# Altium footprint library DDS_PCB.PcbLib: 25 footprints (part 1 of 2)
Each footprint in its own frame and in the unit in brackets; x right, y up, seen from the top. Pads: shape width x height; smd on the part's side, far side on the other; paste and mask are expansions set on the pad; w line width, h text height; cw(c..) or ccw(c..) is an arc to the next point about the centre after c.
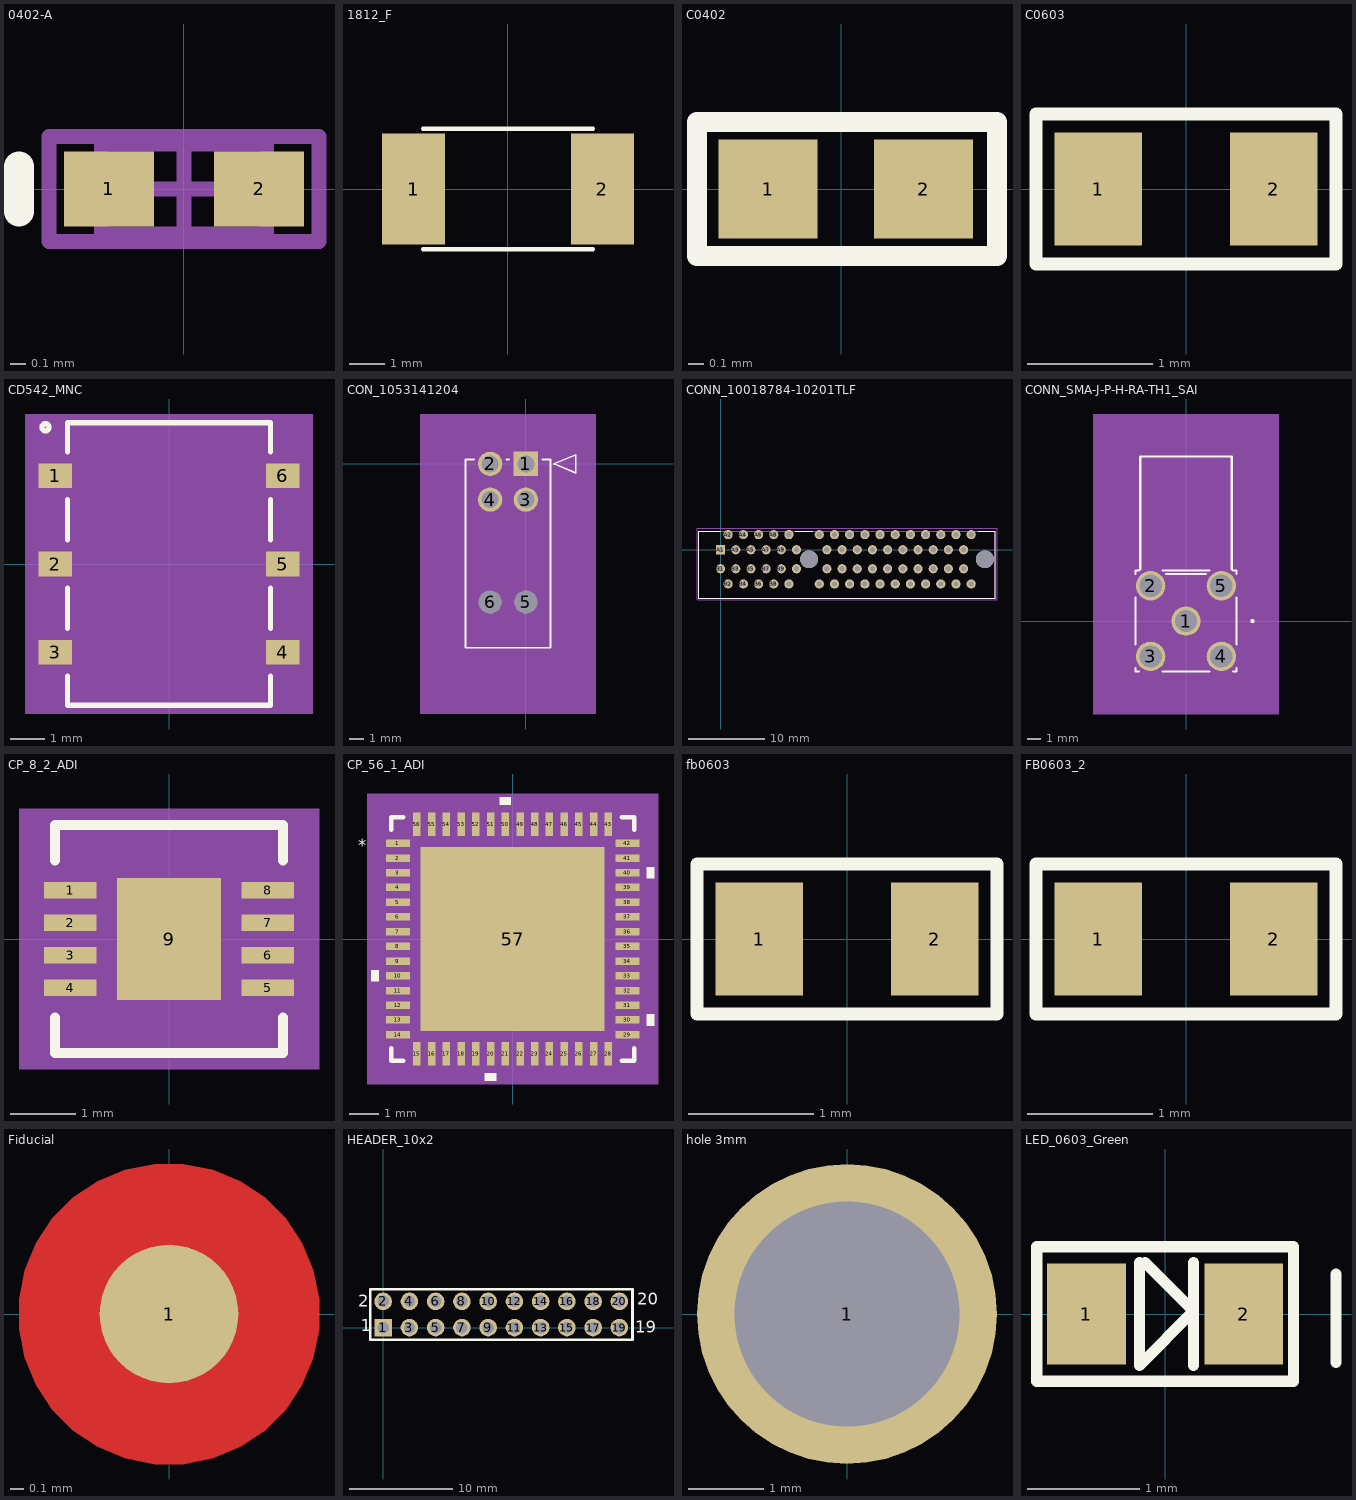
[diagram p0: the footprints below, top view; thin cyan lines are the x and y axes]

## 0402-A [mm] "Chip Inductor, Body 1.0x0.5mm, IPC High Density"
height 0.55
pads (2):
  rect 0.6x0.5 smd: 1(-0.5,0) 2(0.5,0)
Top Overlay:
  lines w0.2: -1.1,-0.15 -1.1,0.15
Mechanical 13:
  lines w0.1: -0.55,-0.3 -0.55,0.3 0.55,0.3 0.55,-0.3 -0.55,-0.3
Mechanical 15:
  lines w0.1: -0.3,0 0.3,0 ; 0,-0.3 0,0.3 ; -0.9,-0.35 -0.9,0.35 0.9,0.35 0.9,-0.35 -0.9,-0.35
3D body: height 0.55, standoff 0, extent -0.55,-0.3 0.55,0.3

## 1812_F [mm] "PTC RESETTABLE 33V 1.10A 1812L"
pads (2):
  rect 1.78x3.15 smd mask+0.05: 1(-2.665,0) 2(2.665,0)
Top Overlay:
  lines w0.12: -2.4,-1.7 2.4,-1.7 ; -2.4,1.7 2.4,1.7
3D body "SW3dPS-Fuse 1812.STEP": height 1.03, standoff 0, extent -2.365,-1.74 2.37,1.74

## C0402 [mil] "C0402"
pads (2):
  rect 25x25 smd mask+2: 1(-18.5,0) 2(20.9,0)
Top Overlay:
  lines w5: -36.5,-17 -36.5,17 36.5,17 39.5,17 39.5,-17 -36.5,-17
Mechanical 16:
  lines w5: -36.5,-17 -36.5,17 39.5,17 39.5,-17 -36.5,-17
Mechanical 18:
  text "1" at -18.5,-10 h25
3D body "SW3dPS-0402 SMD Capacitor.STEP": height 7.95, standoff 0, extent -19.68,-11.81 19.69,11.81

## C0603 [mm]
pads (2):
  rect 0.7x0.9 smd mask+0.05: 1(-0.7,0) 2(0.7,0)
Top Overlay:
  lines w0.102: -1.2,-0.6 1.2,-0.6 1.2,0.6 -1.2,0.6 -1.2,-0.6
3D body "SW3dPS-0603 SMD Capacitor.STEP": height 0.3, standoff 0, extent -0.8,-0.4 0.8,0.4

## CD542_MNC [mm]
pads (6):
  rect 0.96x0.712 smd paste+0 mask+0: 1(-3.274,2.54) 2(-3.274,0) 3(-3.274,-2.54) 4(3.274,-2.54) 5(3.274,0) 6(3.274,2.54)
Top Overlay:
  circle w0.152: c-3.556,3.937 r0.102
  lines w0.152: -2.921,-3.229 -2.921,-4.064 2.921,-4.064 2.921,-3.229 ; -2.921,-1.851 -2.921,-0.689 ; -2.921,0.689 -2.921,1.851 ; -2.921,3.229 -2.921,4.064 2.921,4.064 2.921,3.229 ; 2.921,-1.851 2.921,-0.689 ; 2.921,0.689 2.921,1.851
Mechanical 5:
  region: 4.135,-4.318 -4.135,-4.318 -4.135,4.318 4.135,4.318
Mechanical 13:
  circle w0: c-2.794,2.54 r0.076
  lines w0: -0.305,3.937 ccw(c0,3.937) 0.305,3.937
  lines w0.025: -2.794,-3.937 -2.794,3.937 2.794,3.937 2.794,-3.937 -2.794,-3.937
Mechanical 15:
  region: -3.048,-3.15 -4.008,-3.15 -4.008,3.15 -3.048,3.15 -3.048,4.191 3.048,4.191 3.048,3.15 4.008,3.15 4.008,-3.15 3.048,-3.15 3.048,-4.191 -3.048,-4.191
  lines w0.152: -4.008,-3.15 -3.048,-3.15 -3.048,-4.191 3.048,-4.191 3.048,-3.15 4.008,-3.15 4.008,3.15 3.048,3.15 3.048,4.191 -3.048,4.191 -3.048,3.15 -4.008,3.15 -4.008,-3.15
3D body "CD542_MNC.step": height 2.85, standoff 0, extent -3.454,-3.937 3.454,3.937

## CON_1053141204 [mm]
pads (6):
  rect 1.7x1.7 hole 1.2 mask+0.076: 1(0,0)
  round 1.7 hole 1.2 mask+0.076: 2(-2.5,0) 3(0,-2.5) 4(-2.5,-2.5)
  round 1.6 hole 1.6 unplated mask+0.076: 5(0,-9.68) 6(-2.5,-9.68)
Top Overlay:
  lines w0.127: -3.628,0.31 -4.22,0.31 -4.22,-12.88 1.72,-12.88 1.72,0.31 1.17,0.31 ; -1.372,0.31 -1.17,0.31 ; 1.974,0 3.498,-0.635 3.498,0.635 1.974,0
Mechanical 3:
  text "1.6_MM_TO_2.4_MM" at -4.22,-30.162 h1.27
  text "RECOMMENDED_PCB_THICKNESS:" at -4.22,-27.622 h1.27
  text "MAXIMUM_PACKAGE_HEIGHT:_9.14_MM" at -4.22,-23.812 h1.27
  text "NOTE" at -4.22,-21.272 h1.27
Mechanical 5:
  region: -7.395,3.493 4.895,3.493 4.895,-17.515 -7.395,-17.515
Mechanical 10:
  text "1.6_MM_TO_2.4_MM" at -4.22,-30.162 h1.27
  text "RECOMMENDED_PCB_THICKNESS:" at -4.22,-27.622 h1.27
  text "MAXIMUM_PACKAGE_HEIGHT:_9.14_MM" at -4.22,-23.812 h1.27
  text "NOTE" at -4.22,-21.272 h1.27
Mechanical 13:
  lines w0.127: -4.22,-14.34 -4.22,0.318 1.72,0.318 1.72,-14.34 -4.22,-14.34 ; 1.974,0 3.498,-0.635 3.498,0.635 1.974,0
  text "GOLD_0.38_PLATING_BLACK_COLOUR" at -10.775,8.229 h1.27
  text "HDR_OF_NANOFIT,_DR,_R/A,_PWR_CONN_-4_CKT" at -13.95,10.769 h1.27
  text "1053141204" at -4.425,13.309 h1.27
Mechanical 15:
  region: 2.99,1.588 -5.49,1.588 -5.49,-15.61 2.99,-15.61
  lines w0.127: -5.49,-15.61 2.99,-15.61 2.99,1.588 -5.49,1.588 -5.49,-15.61
3D body "1053141204--3DModel-STEP-390490.STEP": height 8.85, standoff -3.49, extent -4.24,-14.199 1.7,0.459
3D body: height 0.25, standoff 0, extent 0,0 0.254,0.254

## CONN_10018784-10201TLF [mm]
pads (66):
  rect 1.208x1.208 hole 0.7: A1(0,0)
  round 1.208 hole 0.7: A2(1,2) A3(2,0) A4(3,2) A5(4,0) A6(5,2) A7(6,0) A8(7,2) A9(8,0) A10(9,2) A11(10,0) A12(13,2) A13(14,0) A14(15,2) A15(16,0) A16(17,2) A17(18,0) A18(19,2) A19(20,0) A20(21,2) A21(22,0) A22(23,2) A23(24,0) A24(25,2) A25(26,0) A26(27,2) A27(28,0) A28(29,2) A29(30,0) A30(31,2) A31(32,0) A32(33,2) B1(0,-2.5) B2(1,-4.5) B3(2,-2.5) B4(3,-4.5) B5(4,-2.5) B6(5,-4.5) B7(6,-2.5) B8(7,-4.5) B9(8,-2.5) B10(9,-4.5) B11(10,-2.5) B12(13,-4.5) B13(14,-2.5) B14(15,-4.5) B15(16,-2.5) B16(17,-4.5) B17(18,-2.5) B18(19,-4.5) B19(20,-2.5) B20(21,-4.5) B21(22,-2.5) B22(23,-4.5) B23(24,-2.5) B24(25,-4.5) B25(26,-2.5) B26(27,-4.5) B27(28,-2.5) B28(29,-4.5) B29(30,-2.5) B30(31,-4.5) B31(32,-2.5) B32(33,-4.5)
  round 2.35 hole 2.35 unplated: ""(11.65,-1.25) ""(34.8,-1.25)
Top Overlay:
  lines w0.127: -0.05,2.45 -2.85,2.45 -2.85,-6.35 36.15,-6.35 36.15,2.45 33.85,2.45 ; 9.85,2.45 12.15,2.45
Mechanical 13:
  lines w0.127: -2.85,-6.35 36.15,-6.35 36.15,2.45 -2.85,2.45 -2.85,-6.35
Mechanical 15:
  lines w0.05: -3.1,-6.6 -3.1,2.86 36.4,2.86 36.4,-6.6 -3.1,-6.6

## CONN_SMA-J-P-H-RA-TH1_SAI [mil]
pads (5):
  round 83 hole 63 mask+0: 1(0,0) 2(-100,100) 3(-100,-100) 4(100,-100) 5(100,100)
Top Overlay:
  circle w6: c188,0 r3
  lines w6: -143,-133.65 -143,-143 -133.65,-143 ; -143,-66.35 -143,66.35 ; -143,133.65 -143,143 -133.65,143 ; -129.5,145.94 -129.5,466 129.5,466 129.5,145.94 ; -66.35,-143 66.35,-143 ; -66.35,143 66.35,143 ; -56.5,133 56.5,133 ; 133.65,-143 143,-143 143,-133.65 ; 133.65,143 143,143 143,133.65 ; 143,-66.35 143,66.35
Mechanical 5:
  region: -263,586 263,586 263,-263 -263,-263
Mechanical 13:
  circle w0: c123,0 r3
  lines w1: -138,-138 138,-138 138,138 -138,138 -138,-138 ; -124.5,138 124.5,138 124.5,461 -124.5,461 -124.5,138
Mechanical 15:
  region: 192.8,-155.42 -192.8,-155.42 -192.8,478.42 192.8,478.42
  lines w6: -192.8,-155.42 -192.8,478.42 192.8,478.42 192.8,-155.42 -192.8,-155.42
3D body: height 10, standoff 0, extent 0,0 10,10
3D body "SMA-J-P-GF-RA-SM1.stp": height 371.8, standoff -16.39, extent -135.59,-137.24 140,457.24

## CP_8_2_ADI [mm]
pads (9):
  rect 0.808x0.255 smd paste+0 mask+0: 1(-1.522,0.75) 2(-1.522,0.25) 3(-1.522,-0.25) 4(-1.522,-0.75) 5(1.522,-0.75) 6(1.522,-0.25) 7(1.522,0.25) 8(1.522,0.75)
  rect 1.6x1.88 smd paste+0 mask+0: 9(0,0)
Top Overlay:
  lines w0.152: -1.753,-1.21 -1.753,-1.753 1.753,-1.753 1.753,-1.21 ; -1.753,1.21 -1.753,1.753 1.753,1.753 1.753,1.21
  text "." at -2.21,1.346 h1.27
Mechanical 5:
  region: 2.307,-2.007 -2.307,-2.007 -2.307,2.007 2.307,2.007
Mechanical 13:
  lines w0: -0.305,1.626 ccw(c0,1.626) 0.305,1.626
  lines w0.025: -1.626,-1.626 -1.626,1.626 1.626,1.626 1.626,-1.626 -1.626,-1.626
Mechanical 15:
  region: -1.88,-1.131 -2.18,-1.131 -2.18,1.131 -1.88,1.131 -1.88,1.88 1.88,1.88 1.88,1.131 2.18,1.131 2.18,-1.131 1.88,-1.131 1.88,-1.88 -1.88,-1.88
  lines w0.152: -2.18,-1.131 -1.88,-1.131 -1.88,-1.88 1.88,-1.88 1.88,-1.131 2.18,-1.131 2.18,1.131 1.88,1.131 1.88,1.88 -1.88,1.88 -1.88,1.131 -2.18,1.131 -2.18,-1.131
3D body "CP_8_2_ADI.step": height 0.84, standoff 0, extent -1.626,-1.626 1.626,1.626

## CP_56_1_ADI [mm]
pads (57):
  rect 0.808x0.255 smd paste+0 mask+0: 1(-3.896,3.25) 2(-3.896,2.75) 3(-3.896,2.25) 4(-3.896,1.75) 5(-3.896,1.25) 6(-3.896,0.75) 7(-3.896,0.25) 8(-3.896,-0.25) 9(-3.896,-0.75) 10(-3.896,-1.25) 11(-3.896,-1.75) 12(-3.896,-2.25) 13(-3.896,-2.75) 14(-3.896,-3.25) 29(3.896,-3.25) 30(3.896,-2.75) 31(3.896,-2.25) 32(3.896,-1.75) 33(3.896,-1.25) 34(3.896,-0.75) 35(3.896,-0.25) 36(3.896,0.25) 37(3.896,0.75) 38(3.896,1.25) 39(3.896,1.75) 40(3.896,2.25) 41(3.896,2.75) 42(3.896,3.25)
  rect 0.255x0.808 smd paste+0 mask+0: 15(-3.25,-3.896) 16(-2.75,-3.896) 17(-2.25,-3.896) 18(-1.75,-3.896) 19(-1.25,-3.896) 20(-0.75,-3.896) 21(-0.25,-3.896) 22(0.25,-3.896) 23(0.75,-3.896) 24(1.25,-3.896) 25(1.75,-3.896) 26(2.25,-3.896) 27(2.75,-3.896) 28(3.25,-3.896) 43(3.25,3.896) 44(2.75,3.896) 45(2.25,3.896) 46(1.75,3.896) 47(1.25,3.896) 48(0.75,3.896) 49(0.25,3.896) 50(-0.25,3.896) 51(-0.75,3.896) 52(-1.25,3.896) 53(-1.75,3.896) 54(-2.25,3.896) 55(-2.75,3.896) 56(-3.25,3.896)
  rect 6.248x6.248 smd paste-3.111 mask+0: 57(0,0)
Top Overlay:
  region: -4.554,-1.06 -4.808,-1.06 -4.808,-1.441 -4.554,-1.441
  region: -0.56,-4.554 -0.941,-4.554 -0.941,-4.808 -0.56,-4.808
  region: 4.554,-2.559 4.808,-2.559 4.808,-2.94 4.554,-2.94
  region: 4.554,2.441 4.808,2.441 4.808,2.06 4.554,2.06
  region: -0.059,4.554 -0.44,4.554 -0.44,4.808 -0.059,4.808
  lines w0.152: -4.127,-3.71 -4.127,-4.127 -3.71,-4.127 ; -4.127,3.71 -4.127,4.127 -3.71,4.127 ; 3.71,-4.127 4.127,-4.127 4.127,-3.71 ; 3.71,4.127 4.127,4.127 4.127,3.71
  text "*" at -5.253,2.865 h0.7
Top Paste:
  region: -1.662,3.024 -3.024,3.024 -3.024,1.662 -1.662,1.662
  region: -1.662,1.462 -3.024,1.462 -3.024,0.1 -1.662,0.1
  region: -1.662,-0.1 -3.024,-0.1 -3.024,-1.462 -1.662,-1.462
  region: -1.662,-1.662 -3.024,-1.662 -3.024,-3.024 -1.662,-3.024
  region: -0.1,3.024 -1.462,3.024 -1.462,1.662 -0.1,1.662
  region: -0.1,1.462 -1.462,1.462 -1.462,0.1 -0.1,0.1
  region: -0.1,-0.1 -1.462,-0.1 -1.462,-1.462 -0.1,-1.462
  region: -0.1,-1.662 -1.462,-1.662 -1.462,-3.024 -0.1,-3.024
  region: 1.462,3.024 0.1,3.024 0.1,1.662 1.462,1.662
  region: 1.462,1.462 0.1,1.462 0.1,0.1 1.462,0.1
  region: 1.462,-0.1 0.1,-0.1 0.1,-1.462 1.462,-1.462
  region: 1.462,-1.662 0.1,-1.662 0.1,-3.024 1.462,-3.024
  region: 3.024,3.024 1.662,3.024 1.662,1.662 3.024,1.662
  region: 3.024,1.462 1.662,1.462 1.662,0.1 3.024,0.1
  region: 3.024,-0.1 1.662,-0.1 1.662,-1.462 3.024,-1.462
  region: 3.024,-1.662 1.662,-1.662 1.662,-3.024 3.024,-3.024
Mechanical 5:
  region: 4.935,-4.935 -4.935,-4.935 -4.935,4.935 4.935,4.935
Mechanical 13:
  lines w0.025: -4,2.73 -2.73,4 ; -4,-4 4,-4 4,4 -4,4 -4,-4 ; -4,-3.402 -4,-3.098 -4,-3.402 ; -4,-2.902 -4,-2.598 -4,-2.902 ; -4,-2.402 -4,-2.098 -4,-2.402 ; -4,-1.902 -4,-1.598 -4,-1.902 ; -4,-1.402 -4,-1.098 -4,-1.402 ; -4,-0.902 -4,-0.598 -4,-0.902 ; -4,-0.402 -4,-0.098 -4,-0.402 ; -4,0.098 -4,0.402 -4,0.098 ; -4,0.598 -4,0.902 -4,0.598 ; -4,1.098 -4,1.402 -4,1.098 ; -4,1.598 -4,1.902 -4,1.598 ; -4,2.098 -4,2.402 -4,2.098 ; -4,2.598 -4,2.902 -4,2.598 ; -4,3.098 -4,3.402 -4,3.098 ; -3.402,-4 -3.098,-4 -3.402,-4 ; -3.402,4 -3.098,4 -3.402,4 ; -2.902,-4 -2.598,-4 -2.902,-4 ; -2.902,4 -2.598,4 -2.902,4 ; -2.402,-4 -2.098,-4 -2.402,-4 ; -2.402,4 -2.098,4 -2.402,4 ; -1.902,-4 -1.598,-4 -1.902,-4 ; -1.902,4 -1.598,4 -1.902,4 ; -1.402,-4 -1.098,-4 -1.402,-4 ; -1.402,4 -1.098,4 -1.402,4 ; -0.902,-4 -0.598,-4 -0.902,-4 ; -0.902,4 -0.598,4 -0.902,4 ; -0.402,-4 -0.098,-4 -0.402,-4 ; -0.402,4 -0.098,4 -0.402,4 ; 0.098,-4 0.402,-4 0.098,-4 ; 0.098,4 0.402,4 0.098,4 ; 0.598,-4 0.902,-4 0.598,-4 ; 0.598,4 0.902,4 0.598,4 ; 1.098,-4 1.402,-4 1.098,-4 ; 1.098,4 1.402,4 1.098,4 ; 1.598,-4 1.902,-4 1.598,-4 ; 1.598,4 1.902,4 1.598,4 ; 2.098,-4 2.402,-4 2.098,-4 ; 2.098,4 2.402,4 2.098,4 ; 2.598,-4 2.902,-4 2.598,-4 ; 2.598,4 2.902,4 2.598,4 ; 3.098,-4 3.402,-4 3.098,-4 ; 3.098,4 3.402,4 3.098,4 ; 4,-3.402 4,-3.098 4,-3.402 ; 4,-2.902 4,-2.598 4,-2.902 ; 4,-2.402 4,-2.098 4,-2.402 ; 4,-1.902 4,-1.598 4,-1.902 ; 4,-1.402 4,-1.098 4,-1.402 ; 4,-0.902 4,-0.598 4,-0.902 ; 4,-0.402 4,-0.098 4,-0.402 ; 4,0.098 4,0.402 4,0.098 ; 4,0.598 4,0.902 4,0.598 ; 4,1.098 4,1.402 4,1.098 ; 4,1.598 4,1.902 4,1.598 ; 4,2.098 4,2.402 4,2.098 ; 4,2.598 4,2.902 4,2.598 ; 4,3.098 4,3.402 4,3.098
  text "*" at -3.81,2.865 h1.27
Mechanical 15:
  region: -3.631,-4.255 -4.255,-4.255 -4.255,-3.631 -4.554,-3.631 -4.554,3.631 -4.255,3.631 -4.255,4.255 -3.631,4.255 -3.631,4.554 3.631,4.554 3.631,4.255 4.255,4.255 4.255,3.631 4.554,3.631 4.554,-3.631 4.255,-3.631 4.255,-4.255 3.631,-4.255 3.631,-4.554 -3.631,-4.554
  lines w0.152: -4.554,-3.631 -4.255,-3.631 -4.255,-4.255 -3.631,-4.255 -3.631,-4.554 3.631,-4.554 3.631,-4.255 4.255,-4.255 4.255,-3.631 4.554,-3.631 4.554,3.631 4.255,3.631 4.255,4.255 3.631,4.255 3.631,4.554 -3.631,4.554 -3.631,4.255 -4.255,4.255 -4.255,3.631 -4.554,3.631 -4.554,-3.631
3D body "CP_56_1_ADI.step": height 0.99, standoff 0, extent -4,-4 4,4

## fb0603 [mm]
pads (2):
  rect 0.7x0.9 smd mask+0.05: 1(-0.7,0) 2(0.7,0)
Top Overlay:
  lines w0.102: -1.2,-0.6 -1.2,0.6 1.2,0.6 1.2,-0.6 -1.2,-0.6
3D body: height 0.8, standoff 0, extent 0.356,-0.381 0.762,0.381
3D body: height 0.8, standoff 0, extent -0.356,-0.381 0.356,0.381
3D body: height 0.8, standoff 0, extent -0.762,-0.381 -0.356,0.381

## FB0603_2 [mm]
pads (2):
  rect 0.7x0.9 smd mask+0.05: 1(-0.7,0) 2(0.7,0)
Top Overlay:
  lines w0.102: -1.2,-0.6 -1.2,0.6 1.2,0.6 1.2,-0.6 -1.2,-0.6
3D body: height 0.8, standoff 0, extent 0.356,-0.381 0.762,0.381
3D body: height 0.8, standoff 0, extent -0.356,-0.381 0.356,0.381
3D body: height 0.8, standoff 0, extent -0.762,-0.381 -0.356,0.381

## Fiducial [mil]
pads (1):
  round 40 smd mask+19.68: 1(0,0)
Top Layer:
  pour cut-out: 43.31,0 43.31,4.27 41.64,12.63 38.38,20.51 33.64,27.61 27.61,33.64 20.51,38.38 12.63,41.64 4.27,43.31 0,43.31 -4.27,43.31 -12.63,41.64 -20.51,38.38 -27.61,33.64 -33.64,27.61 -38.38,20.51 -41.64,12.63 -43.31,4.27 -43.31,0 -43.31,-4.27 -41.64,-12.63 -38.38,-20.51 -33.64,-27.61 -27.61,-33.64 -20.51,-38.38 -12.63,-41.64 -4.27,-43.31 0,-43.31 4.27,-43.31 12.63,-41.64 20.51,-38.38 27.61,-33.64 33.64,-27.61 38.38,-20.51 41.64,-12.63 43.31,-4.27

## HEADER_10x2 [mm]
pads (20):
  rect 1.7x1.7 hole 1.1 mask+0.05: 1(0,0)
  round 1.7 hole 1.1 mask+0.05: 2(0,2.54) 3(2.54,0) 4(2.54,2.54) 5(5.08,0) 6(5.08,2.54) 7(7.62,0) 8(7.62,2.54) 9(10.16,0) 10(10.16,2.54) 11(12.7,0) 12(12.7,2.54) 13(15.24,0) 14(15.24,2.54) 15(17.78,0) 16(17.78,2.54) 17(20.32,0) 18(20.32,2.54) 19(22.86,0) 20(22.86,2.54)
Top Overlay:
  lines w0.254: -1.27,-1.168 24.13,-1.168 24.13,3.708 -1.27,3.708 -1.27,-1.168
  text "1" at -2.159,-0.737 h2
  text "2" at -2.438,1.651 h2
  text "20" at 24.6,1.8 h2
  text "19" at 24.4,-0.9 h2
3D body "901310770.stp": height 7.75, standoff -4.4, extent -1.27,-1.27 24.13,3.81

## hole 3mm [mm] "hole 3mm"
pads (1):
  round 4 hole 3: 1(0,0)

## LED_0603_Green [mm] "LED 0603, Green"
pads (2):
  rect 0.7x0.9 smd mask+0.05: 1(-0.7,0) 2(0.7,0)
Top Overlay:
  lines w0.1: -0.229,0.457 -0.229,-0.457 0.254,0.025 -0.178,0.457 ; 0.254,-0.457 0.254,0.457 ; 1.524,-0.432 1.524,0.356
  lines w0.102: -1.145,-0.6 -1.145,0.6 1.145,0.6 1.145,-0.6 -1.145,-0.6
3D body "2610002_LED SMD-0603(Green).stp": height 0.7, standoff 0, extent -0.8,-0.4 0.8,0.4